# EAGLE library part ADAFRUIT_128X32_OLED (library personal_srgPersonal)
Adafriut 128x32 OLED display with I2C communication http://www.adafruit.com/products/931
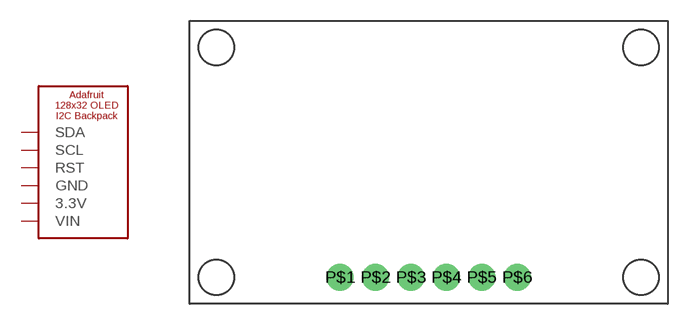
[diagram p2: symbol with the pads of ADAFRUIT_OLED_128X32; footprint ADAFRUIT_OLED_128X32]

Designator prefix -

## ADAFRUIT_128X32_OLED  [ADAFRUIT_OLED_128X32]
P$1  SDA
P$2  SCL
P$3  RST  in
P$4  GND  pwr
P$5  3.3V  pwr
P$6  VIN  pwr

## Footprint ADAFRUIT_OLED_128X32 (pad centres in mm)
128 x 32 OLED from Adafruit http://www.adafruit.com/products/931
drill 1 pad 1.93: P$1 -6.985,-6.985; P$2 -4.445,-6.985; P$3 -1.905,-6.985; P$4 0.635,-6.985; P$5 3.175,-6.985; P$6 5.715,-6.985